# EAGLE library part A-DF15A_KG-T2S (library Connector_D-Sub)
D-SUB, 15POS, RCPT, R/A SLDR Datasheet <http://www.assmann-wsw.com/fileadmin/datasheets/ASS_4888_CO.pdf>
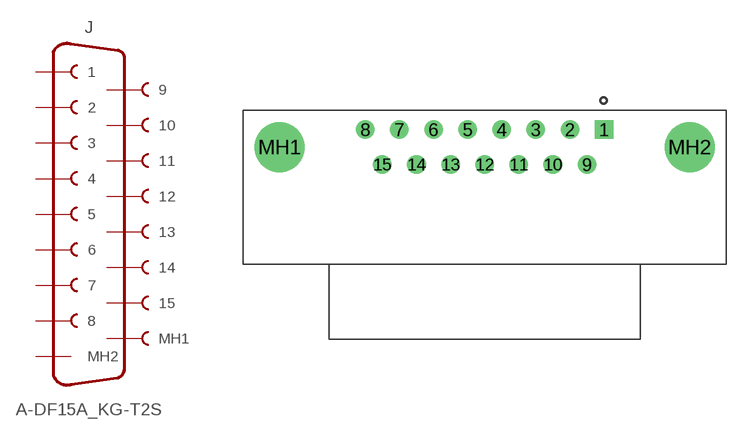
[diagram p2: symbol with the pads of A-DF15A_KG-T2S; footprint A-DF15A_KG-T2S]

Designator prefix J

## A-DF15A_KG-T2S (CATEGORY: Connector; DESCRIPTION: 15 Position D-Sub Receptacle, Female Sockets Connector; GENDER: Female; MANUFACTURER: Assmann WSW; MPN: A-DF 15 A/KG-T2S; OPERATING_TEMPERATURE: -55°C ~ 105°C; PART_STATUS: ACTIVE; ROHS_COMPLIANT: COMPLIANT; SERIES: A-Dx xx A/KG-xx; SUB_CATEGORY: D-SUB; TYPE: R/A; VALUE: D-SUB-RCPT-15P)  [A-DF15A_KG-T2S]
1  1  pas
2  2  pas
3  3  pas
4  4  pas
5  5  pas
6  6  pas
7  7  pas
8  8  pas
9  9  pas
10  10  pas
11  11  pas
12  12  pas
13  13  pas
14  14  pas
15  15  pas
MH1  MH2  sup
MH2  MH1  sup

## Footprint A-DF15A_KG-T2S (pad centres in mm)
drill 1 square: 1 0,0
drill 1: 2 -2.77,0; 3 -5.54,0; 4 -8.31,0; 5 -11.08,0; 6 -13.85,0; 7 -16.62,0; 8 -19.39,0; 9 -1.385,-2.84; 10 -4.155,-2.84; 11 -6.925,-2.84; 12 -9.695,-2.84; 13 -12.465,-2.84; 14 -15.235,-2.84; 15 -18.005,-2.84
drill 3.05: MH1 -26.345,-1.42; MH2 6.955,-1.42